# Altium footprint library connector.PcbLib: 180 footprints (part 3 of 12)
Each footprint in its own frame and in the unit in brackets; x right, y up, seen from the top. Pads: shape width x height; smd on the part's side, far side on the other; paste and mask are expansions set on the pad; w line width, h text height; cw(c..) or ccw(c..) is an arc to the next point about the centre after c.
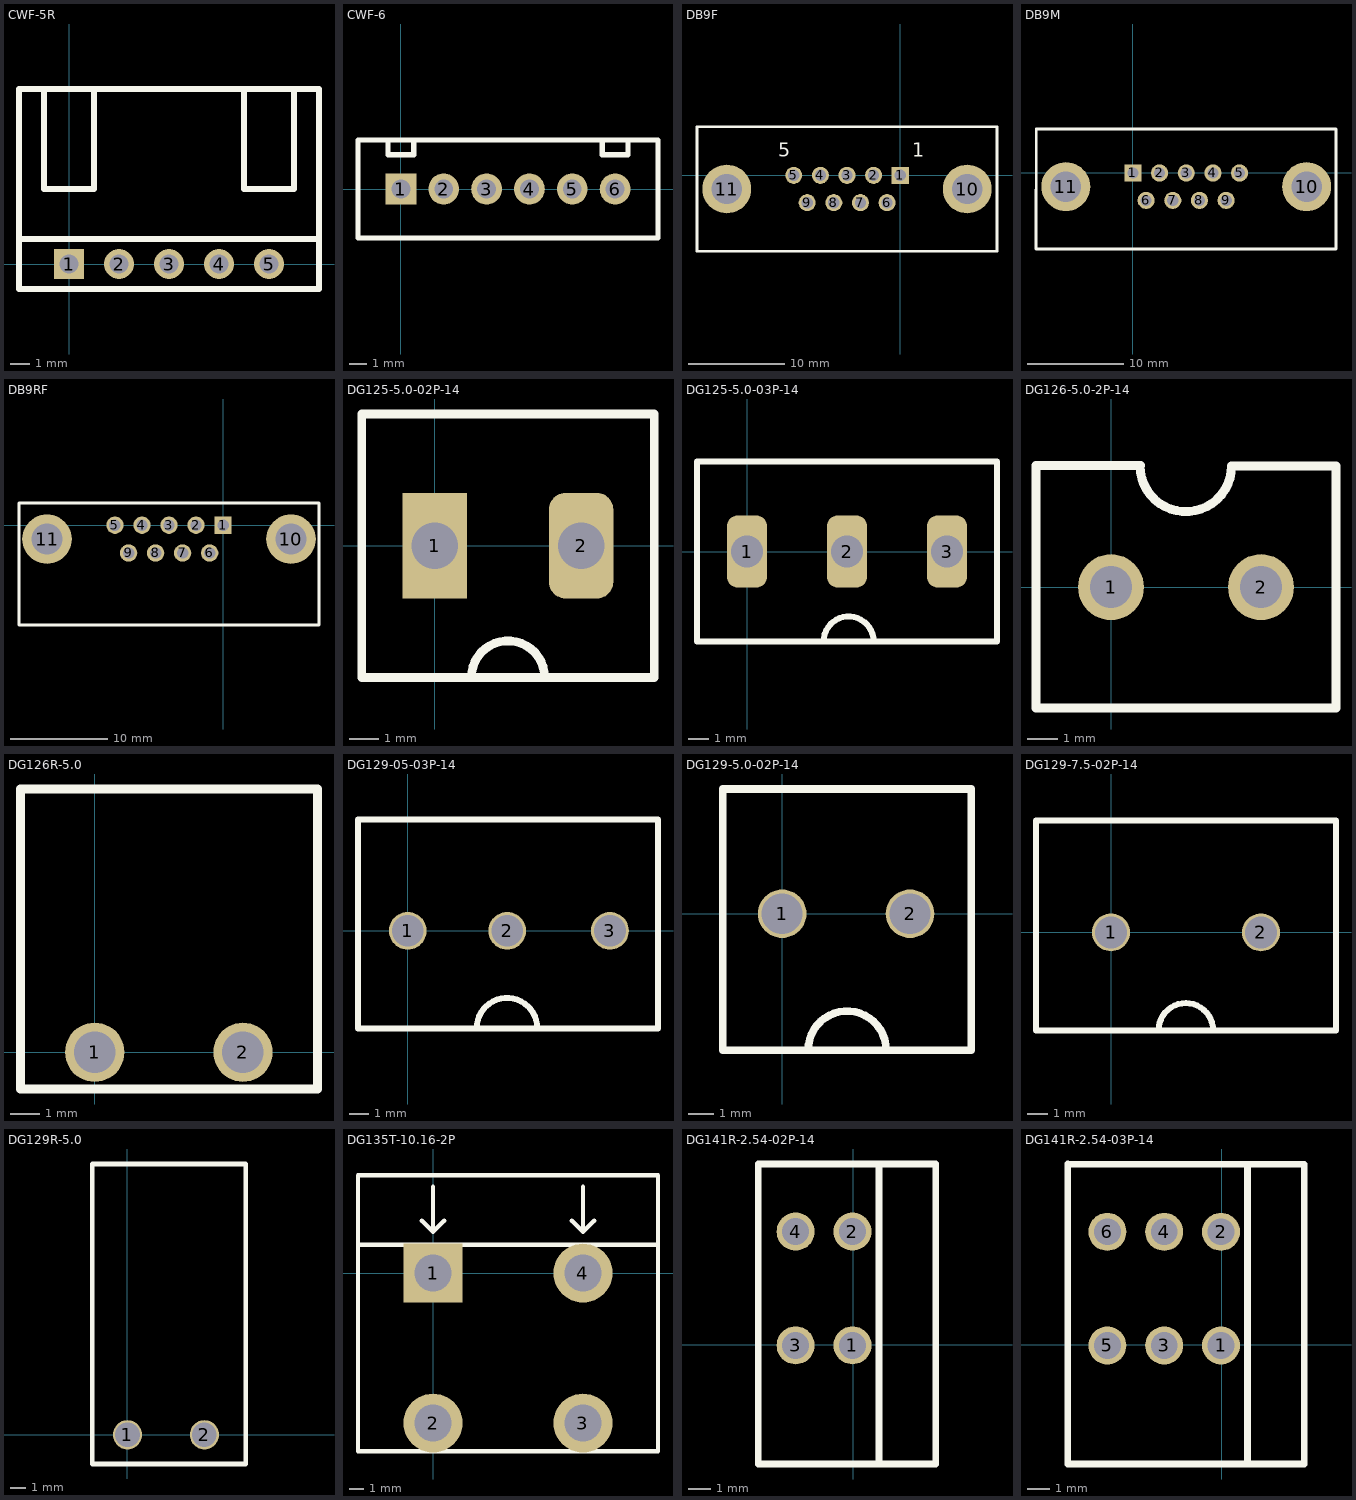
[diagram p2: the footprints below, top view; thin cyan lines are the x and y axes]

## CWF-5R [mil]
pads (5):
  rect 60x60 hole 38: 1(0,0)
  round 60 hole 38: 2(100,0) 3(200,0) 4(300,0) 5(400,0)
Top Overlay:
  lines w11.81: -50,350 -50,150 50,150 50,350 ; 350,350 350,150 450,150 450,350 ; -100,50 500,50 ; -100,50 -100,350 500,350 500,50 ; -100,50 -100,-50 500,-50 500,50

## CWF-6 [mm]
pads (6):
  rect 1.8x1.8 hole 1.1: 1(0,0)
  round 1.8 hole 1.1: 2(2.5,0) 3(5,0) 4(7.5,0) 5(10,0) 6(12.5,0)
Top Overlay:
  lines w0.3: -0.75,2.85 -0.75,2 0.75,2 0.75,2.85 ; 11.75,2.85 11.75,2 13.25,2 13.25,2.85 ; -2.5,-2.85 -2.5,2.85 15,2.85 15,-2.85 -2.5,-2.85

## DB9F [mil]
pads (11):
  rect 70x70 hole 46: 1(0,0)
  round 70 hole 46: 2(-109,0) 3(-218,0) 4(-327,0) 5(-436,0) 6(-54,-112) 7(-163,-112) 8(-272,-112) 9(-381,-112)
  round 200 hole 124: 10(274,-56) 11(-710,-56)
Top Overlay:
  lines w11.81: -832,-311 -832,199 396,199 396,-311 -832,-311
  text "5" at -500,75 h56.88
  text "1" at 50,75 h56.88

## DB9M [mil]
pads (11):
  rect 70x70 hole 46: 1(0,0)
  round 70 hole 46: 2(109,0) 3(218,0) 4(327,0) 5(436,0) 6(54,-112) 7(163,-112) 8(272,-112) 9(381,-112)
  round 200 hole 124: 10(710,-56) 11(-274,-56)
Top Overlay:
  lines w11.81: -396,-311 -395,180 830,180 830,-310 -396,-311

## DB9RF [mil]
pads (11):
  rect 70x70 hole 46: 1(0,0)
  round 70 hole 46: 2(-109,0) 3(-218,0) 4(-327,0) 5(-436,0) 6(-54,-112) 7(-163,-112) 8(-272,-112) 9(-381,-112)
  round 200 hole 124: 10(274,-56) 11(-710,-56)
Top Overlay:
  lines w11.81: -823,-403 387,-403 387,90 -823,90 -823,-403

## DG125-5.0-02P-14 [mm]
pads (2):
  rect 2.2x3.6 hole 1.6: 1(0,0)
  rrect50% 2.2x3.6 hole 1.6: 2(5,0)
Top Overlay:
  lines w0.3: 1.25,-4.5 cw(c2.5,-4.5) 3.75,-4.5 ; -2.5,-4.5 -2.5,4.5 7.5,4.5 7.5,-4.5 -2.5,-4.5
3D body "DG128-5.0-02P-14.step": height 14.3, standoff -3.5, extent -2.8,-5.1 7.5,5.1

## DG125-5.0-03P-14 [mm]
pads (3):
  rrect50% 2x3.6 hole 1.6: 1(0,0) 2(5,0) 3(10,0)
Top Overlay:
  lines w0.3: 3.83,-4.5 cw(c5.08,-4.5) 6.33,-4.5 ; -2.5,-4.5 12.5,-4.5 12.5,4.5 -2.5,4.5 -2.5,-4.5

## DG126-5.0-2P-14 [mm] "Therminal block"
pads (2):
  round 2.2 hole 1.4: 1(0,0) 2(5,0)
Top Overlay:
  lines w0.3: 0.97,4.04 ccw(c2.494,4.04) 4.018,4.04 ; 0.976,4.06 -2.5,4.06 -2.5,-4.02 7.5,-4.02 7.5,4 ; 4.02,4.04 7.496,4.04
3D body "DEGSON_DG-126.STEP": height 10, standoff -4, extent -2.5,-4 8,4

## DG126R-5.0 [mm]
pads (2):
  round 2 hole 1.4: 1(0,0) 2(5,0)
Top Overlay:
  lines w0.3: -2.51,-1.24 -2.51,8.88 7.52,8.88 7.52,-1.24 -2.51,-1.24
3D body "DG126R-5.0-02P.STEP": height 7.8, standoff -2, extent -2.86,-1.31 7.54,8.89

## DG129-05-03P-14 [mm]
pads (3):
  round 1.9 hole 1.6: 1(0,0) 2(5,0) 3(10.16,0)
Top Overlay:
  lines w0.3: -2.5,5.59 12.58,5.59 12.58,-4.9 -2.5,-4.9 -2.5,5.6 ; 3.466,-4.9 cw(c4.99,-4.9) 6.514,-4.9

## DG129-5.0-02P-14 [mm]
pads (2):
  round 1.9 hole 1.6: 1(0,0) 2(5,0)
Top Overlay:
  lines w0.3: 1.016,-5.33 cw(c2.54,-5.33) 4.064,-5.33 ; -2.32,-5.34 7.39,-5.34 7.39,4.88 -2.32,4.88 -2.32,-5.34
3D body "User Library-DG129-5_0-2.step": height 19, standoff -3.95, extent -3,-5 7.5,5

## DG129-7.5-02P-14 [mm]
pads (2):
  round 1.9 hole 1.6: 1(0,0) 2(7.5,0)
Top Overlay:
  lines w0.3: 2.377,-4.9 cw(c3.74,-4.9) 5.103,-4.9 ; -3.75,-4.9 11.25,-4.9 11.25,5.6 -3.75,5.6 -3.75,-4.9

## DG129R-5.0 [mm]
pads (2):
  round 1.9 hole 1.6: 1(0,0) 2(5,0)
Top Overlay:
  lines w0.3: -2.3,-1.9 -2.3,17.6 7.7,17.6 7.7,-1.9 -2.3,-1.9
3D body "DG129R-5,0-02P.STEP": height 10.5, standoff -2.5, extent -3.14,-1.88 7.46,17.62

## DG135T-10.16-2P [mm]
height 50
pads (4):
  rect 4x4 hole 2.5: 1(0,0)
  round 4 hole 2.5: 2(0,-10.16) 3(10.16,-10.16) 4(10.16,0)
Top Overlay:
  lines w0.3: -0.762,3.556 0,2.794 ; 0,5.842 0,2.794 ; 0.762,3.556 0,2.794 ; 9.398,3.556 10.16,2.794 ; 10.16,5.842 10.16,2.794 ; 10.922,3.556 10.16,2.794 ; -5.08,1.92 15.24,1.92 ; -5.08,1.92 -5.08,-12.08 15.24,-12.08 15.24,1.92 ; -5.08,1.92 -5.08,6.62 15.24,6.62 15.24,1.92
3D body "DG135T_10.16.step": height 29, standoff -4, extent -5.05,-12.3 15.25,6.4

## DG141R-2.54-02P-14 [mm]
pads (4):
  round 1.7 hole 1.2: 1(-0.03,-0.03) 2(-0.03,5.05) 3(-2.57,-0.03) 4(-2.57,5.05)
Top Overlay:
  lines w0.3: 1.15,-5.33 1.15,8.07 ; -4.24,-5.33 -4.24,8.07 3.69,8.07 3.69,-5.33 -4.24,-5.33

## DG141R-2.54-03P-14 [mm]
pads (6):
  round 1.7 hole 1.2: 1(-0.03,-0.03) 2(-0.03,5.05) 3(-2.57,-0.03) 4(-2.57,5.05) 5(-5.11,-0.03) 6(-5.11,5.05)
Top Overlay:
  lines w0.3: -6.88,8.07 -6.88,-5.33 3.69,-5.33 3.69,8.07 -6.88,8.08 ; 1.15,-5.33 1.15,8.07